# Altium integrated library TI Power Management DC-DC Controller (External Switch).IntLib: 349 symbols (part 11 of 28)
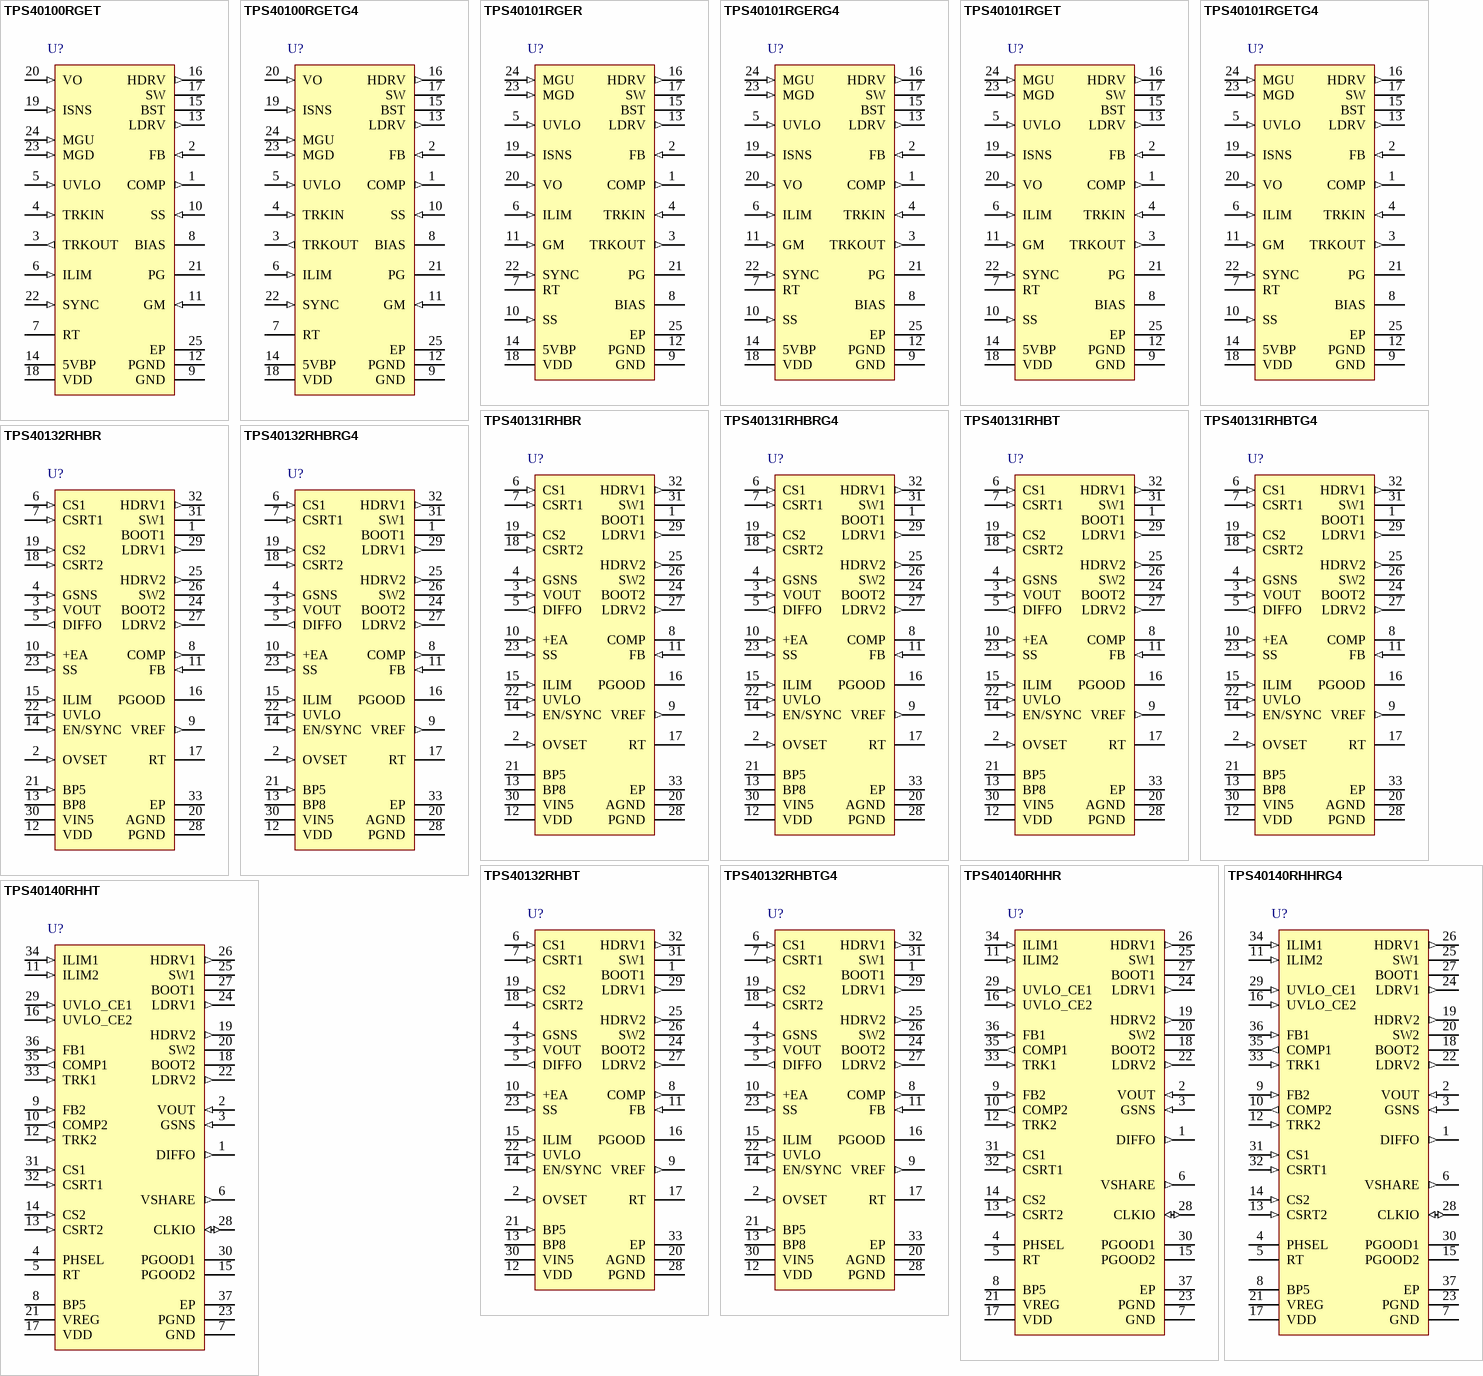
[diagram p24: symbols TPS40100RGET to TPS40140RHHT]

## TPS40131RHBTG4
designator U?
Two-Phase Synchronous Buck Controller with Integrated Mosfet Driver, 87.5 % Duty Cycle, 1 to 40 V, -40 to 85 degC, 32-pin QFN (RHB), Green (RoHS & no Sb/Br); Manufacturer: Texas Instruments; PartNumber: TPS40131RHBTG4; Duty Cycle(Max)(%): 87.5; Iout(Max)(A): 50; Regulated Outputs(#): 1; SubFamily: Step-Down Controller; Switching Frequency(Max)(kHz): 1000; Synchronous Rectification: TRUE; Topology: Buck, Multiphase"; Vin(Max)(V): 40; Vout(Max)(V): 5.8; Vout(Min)(V): 0.7; DatasheetVersion: SLVS635; PackageVersion: revD, Jun-2011; PackageReference: RHB32-3450X3450TP; PackageDescription: 32-Pin Plastic Quad Flat No-Lead, 5 x 5 mm Body, 0.5 mm Pitch, 3.45 x 3.45 mm Exposed Pad; Supplier 1: Digi-Key; Supplier Part Number 1: TPS40131RHBTG4-ND; Supplier 2: Farnell; Supplier Part Number 2: 1494891; Supplier 3: Newark; Supplier Part Number 3: 62M0697; Supplier 4: Newark; Supplier Part Number 4: 41M5867; Supplier 5: Mouser; Supplier Part Number 5: 595-TPS40131RHBTG4; Eco-Plan: Green (RoHS & no Sb/Br); Vin(Min)(V): 1; Mounting Technology: Surface Mount; Code_JEDEC: MO-220; ComponentLink1Description: Datasheet; ComponentLink1URL: http://www.ti.com/general/docs/lit/getliterature.tsp?genericPartNumber=TPS40131&fileType=pdf; ComponentLink2Description: Package Specification; ComponentLink2URL: http://www.ti.com/litv/pdf/mpqf130c
footprint RHB32-3450X3450TP (QFN, 32-Leads, Body 5x5mm, Pitch 0.5mm, Thermal Pad 3.45x3.45mm, TI Recommended)
pins: 1 BOOT1 (power) "Provides a bootstrapped supply for the high-side FET driver for PWM1, enabling the gate of the high-side FET to be driven above the input supply rail. Connect a capacitor from this pin to SW1 pin and a Schottky diode from (See Datasheet)", 2 OVSET (in) "A resistor divider, on this pin connected to the output voltage sets the overvoltage sense point.", 3 VOUT (in) "Non-inverting input of the differential amplifier. This pin should be connected to VOUT at the point of load.", 4 GSNS (in) "Inverting input of the differential amplifier. This pin should be connected to ground at the point of load.", 5 DIFFO (out) "Output of the differential amplifier. The voltage at this pin represents the true output voltage without IR drops that result from high-current in the PCB traces. The VOUT and GSNS pins must be connected directly at the (See Datasheet)", 6 CS1 (in) "These pins are used to sense the inductor phase current. Inductor current can be sensed with an external current sense resistor or by using an external R-C circuit and the inductor's DC resistance. The traces for these (See Datasheet)", 7 CSRT1 (in) "Return point of current sense voltage. The traces for these signals must be connected directly at the current sense element. See Layout Guidelines for more information.", 8 COMP "Output of the error amplifier. The voltage at this pin determines the duty cycle for the PWM.", 9 VREF (out) "Output of an internal reference voltage. The load may be up to 100-uA DC.", 10 +EA (in) "This is the input to the non-inverting input of the Error Amplifier. This pin is normally connected to the VREF pin and is the voltage that the feedback loop regulates to.", 11 FB (in) "Inverting input of the error amplifier. In closed loop operation, the voltage at this pin is the internal reference level of 700 mV. This pin is also used for the PGOOD and undervoltage comparators.", 12 VDD (power) "Power input for the LDO linear regulator that powers the differential amplifer and the current sense amplifiers.", 13 BP8 (power) "Output of the LDO that powers the differential amplifer and the current sense amplifiers. The voltage is approximately (VVDD -0.2 V) until the output regulates at approximately 7.5 V. Decouple this pin with a minimum (See Datasheet)", 14 EN/SYNC (in) "A logic high signal on this input enables the controller operation. A pulsing signal to this pin synchronizes the rising edge of SW to the falling edge of an external clock source.", 15 ILIM (in) "Used to set the cycle-by-cycle current limit threshold. If ILIM threshold is reached, the PWM cycle is terminated and the converter delivers limited current to the output.See the Overcurrent Protection section for more (See Datasheet)", 16 PGOOD (oc) "Power good indicator of the output voltage. This open-drain output connects to a voltage via an external resistor. When the FB pin voltage is between 0.616 V to 0.784 V (88% to 112% of VREF), the PGOOD output is in a high (See Datasheet)", 17 RT "Connecting a resistor from this pin to ground sets the oscillator frequency.", 18 CSRT2 (in) "Return point of current sense voltage. The traces for these signals must be connected directly at the current sense element. See Layout Guidelines for more information.", 19 CS2 (in) "These pins are used to sense the inductor phase current. Inductor current can be sensed with an external current sense resistor or by using an external R-C circuit and the inductor's DC resistance. The traces for these (See Datasheet)", 20 AGND (power) "Low noise ground connection to the device.", 21 BP5 (power) "Filtered input from the VIN5 pin. A 10-ohm resistor should be connected between VIN5 and BP5 and a 1.0-uF ceramic capacitor should be connected from this pin to ground.", 22 UVLO (in) "A voltage divider from VIN to this pin, set to 1V, determines the input voltage that starts the controller.", 23 SS (in) "Provides user programmable soft-start by means of a capacitor connected to the pin. If an undervoltage or over current fault is detected the soft-start capacitor cycles 7 times with no switching before a normal soft-start (See Datasheet)", 24 BOOT2 (power) "Provides a bootstrapped supply for the high-side FET driver for PWM2, enabling the gate of the high-side FET to be driven above the input supply rail. Connect a capacitor from this pin to SW2 pin and a Schottky diode from (See Datasheet)", 25 HDRV2 (out) "Gate drive output for the high-side N-channel MOSFET switch for PWM2. Output is referenced to SW2 and is bootstrapped for enhancement of the high-side switch.", 26 SW2 (power) "Connect to the switched node on converter 2. Power return for the channel 2 upper gate driver. There should be a high-current return path from the source of the upper MOSFET to this pin. It is also used by the adaptive gate (See Datasheet)", 27 LDRV2 (out) "Gate drive output for the low-side synchronous rectifier (SR) N-channel MOSFET for PWM2. See Layout Considerations section.", 28 PGND (power) "Power ground reference for the controller lower gate drivers. There should be a high-current return path from the sources of the lower MOSFETs to this pin.", 29 LDRV1 (out) "Gate drive output for the low-side synchronous rectifier (SR) N-channel MOSFET for PWM1. See Layout Considerations section.", 30 VIN5 (power) "Power input for the device. A 1.0-uF ceramic capacitor should be connected from this pin to ground.", 31 SW1 (power) "Connect to the switched node on converter 1. Power return for the channel 1 upper gate driver. There should be a high-current return path from the source of the upper MOSFET to this pin. It is also used by the adaptive gate (See Datasheet)", 32 HDRV1 (out) "Gate drive output for the high-side N-channel MOSFET switch for PWM1. Output is referenced to SW1 and is bootstrapped for enhancement of the high-side switch.", 33 EP (power) "Exposed thermal pad."

## TPS40132RHBR
designator U?
Two Channel Multiphase Controller with 600 mV, .8 % Reference, 87.5 % Duty Cycle, 1 to 40 V, -40 to 85 degC, 32-pin QFN (RHB), Green (RoHS & no Sb/Br); Manufacturer: Texas Instruments; PartNumber: TPS40132RHBR; Duty Cycle(Max)(%): 87.5; Iout(Max)(A): 40; Regulated Outputs(#): 1; SubFamily: Step-Down Controller; Switching Frequency(Max)(kHz): 1000; Synchronous Rectification: TRUE; Vout(Max)(V): 5.8; Vout(Min)(V): 0.6; DatasheetVersion: SLUS776B; PackageVersion: revD, Jun-2011; PackageReference: RHB32-3450X3450TP; PackageDescription: 32-Pin Plastic Quad Flat No-Lead, 5 x 5 mm Body, 0.5 mm Pitch, 3.45 x 3.45 mm Exposed Pad; Supplier 1: Digi-Key; Supplier Part Number 1: TPS40132RHBR-ND; Supplier 2: Mouser; Supplier Part Number 2: 595-TPS40132RHBR; Eco-Plan: Green (RoHS & no Sb/Br); Topology: Multiphase; Vin(Max)(V): 40; Vin(Min)(V): 1; Mounting Technology: Surface Mount; Code_JEDEC: MO-220; ComponentLink1Description: Datasheet; ComponentLink1URL: http://www.ti.com/general/docs/lit/getliterature.tsp?genericPartNumber=TPS40132&fileType=pdf; ComponentLink2Description: Package Specification; ComponentLink2URL: http://www.ti.com/litv/pdf/mpqf130c
footprint RHB32-3450X3450TP (QFN, 32-Leads, Body 5x5mm, Pitch 0.5mm, Thermal Pad 3.45x3.45mm, TI Recommended)
pins: 1 BOOT1 (power) "Provides a bootstrapped supply for the high-side FET driver for PWM1, enabling the gate of the high-side FET to be driven above the input supply rail. Connect a capacitor from this pin to SW1 pin and a Schottky diode from (See Datasheet)", 2 OVSET (in) "A resistor divider, on this pin connected to the output voltage sets the overvoltage sense point.", 3 VOUT (in) "Non-inverting input of the differential amplifier. This pin should be connected to VOUT at the point of load.", 4 GSNS (in) "Inverting input of the differential amplifier. This pin should be connected to ground at the point of load.", 5 DIFFO (out) "Output of the differential amplifier. The voltage at this pin represents the true output voltage without IR drops that result from high-current in the PCB traces. The VOUT and GSNS pins must be connected directly at the (See Datasheet)", 6 CS1 (in) "These pins are used to sense the inductor phase current. Inductor current can be sensed with an external current sense resistor or by using an external R-C circuit and the inductor's DC resistance. The traces for these (See Datasheet)", 7 CSRT1 (in) "Return point of current sense voltage. The traces for these signals must be connected directly at the current sense element. See Layout Guidelines for more information.", 8 COMP (out) "Output of the error amplifier. The voltage at this pin determines the duty cycle for the PWM.", 9 VREF (out) "Output of an internal reference voltage. The load may be up to 100-uA DC.", 10 +EA (in) "This is the input to the non-inverting input of the Error Amplifier. This pin is normally connected to the VREF pin and is the voltage that the feedback loop regulates to.", 11 FB (in) "Inverting input of the error amplifier. In closed loop operation, the voltage at this pin is the internal reference level of 600 mV. This pin is also used for the PGOOD and undervoltage comparators.", 12 VDD (power) "Power input for the LDO linear regulator that powers the differential amplifier and the current sense amplifiers.", 13 BP8 (power) "Output of the LDO that powers the differential amplifier and the current sense amplifiers. The voltage is approximately (VVDD -0.2 V) until the output regulates at approximately 7.5 V. Decouple this pin with a minimum (See Datasheet)", 14 EN/SYNC (in) "A logic high signal on this input enables the controller operation. A pulsing signal to this pin synchronizes the rising edge of SW to the falling edge of an external clock source.", 15 ILIM (in) "Used to set the cycle-by-cycle current limit threshold. If ILIM threshold is reached, the PWM cycle is terminated and the converter delivers limited current to the output. The relationship between ILIM and the maximum phase (See Datasheet)", 16 PGOOD (hiz) "Power good indicator of the output voltage. This open-drain output connects to a voltage via an external resistor. When the FB pin voltage is between 93% and 107% of VREF, the PGOOD output is in a high impedance state.", 17 RT "Connecting a resistor from this pin to ground sets the oscillator frequency.", 18 CSRT2 (in) "Return point of current sense voltage. The traces for these signals must be connected directly at the current sense element. See Layout Guidelines for more information.", 19 CS2 (in) "These pins are used to sense the inductor phase current. Inductor current can be sensed with an external current sense resistor or by using an external R-C circuit and the inductor's DC resistance. The traces for these (See Datasheet)", 20 AGND (power) "Low noise ground connection to the device.", 21 BP5 (in) "Filtered input from the VIN5 pin. A 10-ohm resistor should be connected between VIN5 and BP5 and a 1.0-uF ceramic capacitor should be connected from this pin to ground.", 22 UVLO (in) "A voltage divider from VIN to this pin, set to 1V, determines the input voltage that starts the controller.", 23 SS (in) "Provides user programmable soft-start by means of a capacitor connected to the pin. If an undervoltage or over current fault is detected the soft-start capacitor cycles 7 times with no switching before a normal soft-start (See Datasheet)", 24 BOOT2 (power) "Provides a bootstrapped supply for the high-side FET driver for PWM2, enabling the gate of the high-side FET to be driven above the input supply rail. Connect a capacitor from this pin to SW2 pin and a Schottky diode from (See Datasheet)", 25 HDRV2 (out) "Gate drive output for the high-side N-channel MOSFET switch for PWM2. Output is referenced to SW2 and is bootstrapped for enhancement of the high-side switch.", 26 SW2 (power) "Connect to the switched node on converter 2. Power return for the channel 2 upper gate driver. There should be a high-current return path from the source of the upper MOSFET to this pin. It is also used by the adaptive gate (See Datasheet)", 27 LDRV2 (out) "Gate drive output for the low-side synchronous rectifier (SR) N-channel MOSFET for PWM2. See Layout Considerations section.", 28 PGND (power) "Power ground reference for the controller lower gate drivers. There should be a high-current return path from the sources of the lower MOSFETs to this pin.", 29 LDRV1 (out) "Gate drive output for the low-side synchronous rectifier (SR) N-channel MOSFET for PWM1. See Layout Considerations section.", 30 VIN5 (power) "Power input for the device. A 1.0-uF ceramic capacitor should be connected from this pin to ground.", 31 SW1 (power) "Connect to the switched node on converter 1. Power return for the channel 1 upper gate driver. There should be a high-current return path from the source of the upper MOSFET to this pin. It is also used by the adaptive gate (See Datasheet)", 32 HDRV1 (out) "Gate drive output for the high-side N-channel MOSFET switch for PWM1. Output is referenced to SW1 and is bootstrapped for enhancement of the high-side switch.", 33 EP (power) "Exposed pad."

## TPS40132RHBRG4
designator U?
Two Channel Multiphase Controller with 600 mV, 8 % Reference, 87.5 % Duty Cycle, 1 to 40 V, -40 to 85 degC, 32-pin QFN (RHB), Green (RoHS & no Sb/Br); Manufacturer: Texas Instruments; PartNumber: TPS40132RHBRG4; Duty Cycle(Max)(%): 87.5; Iout(Max)(A): 40; Regulated Outputs(#): 1; SubFamily: Step-Down Controller; Switching Frequency(Max)(kHz): 1000; Synchronous Rectification: TRUE; Vout(Max)(V): 5.8; Vout(Min)(V): 0.6; DatasheetVersion: SLUS776B; PackageVersion: revD, Jun-2011; PackageReference: RHB32-3450X3450TP; PackageDescription: 32-Pin Plastic Quad Flat No-Lead, 5 x 5 mm Body, 0.5 mm Pitch, 3.45 x 3.45 mm Exposed Pad; Supplier 1: Digi-Key; Supplier Part Number 1: TPS40132RHBRG4-ND; Supplier 2: Mouser; Supplier Part Number 2: 595-TPS40132RHBRG4; Eco-Plan: Green (RoHS & no Sb/Br); Topology: Multiphase; Vin(Max)(V): 40; Vin(Min)(V): 1; Mounting Technology: Surface Mount; Code_JEDEC: MO-220; ComponentLink1Description: Datasheet; ComponentLink1URL: http://www.ti.com/general/docs/lit/getliterature.tsp?genericPartNumber=TPS40132&fileType=pdf; ComponentLink2Description: Package Specification; ComponentLink2URL: http://www.ti.com/litv/pdf/mpqf130c
footprint RHB32-3450X3450TP (QFN, 32-Leads, Body 5x5mm, Pitch 0.5mm, Thermal Pad 3.45x3.45mm, TI Recommended)
pins: 1 BOOT1 (power) "Provides a bootstrapped supply for the high-side FET driver for PWM1, enabling the gate of the high-side FET to be driven above the input supply rail. Connect a capacitor from this pin to SW1 pin and a Schottky diode from (See Datasheet)", 2 OVSET (in) "A resistor divider, on this pin connected to the output voltage sets the overvoltage sense point.", 3 VOUT (in) "Non-inverting input of the differential amplifier. This pin should be connected to VOUT at the point of load.", 4 GSNS (in) "Inverting input of the differential amplifier. This pin should be connected to ground at the point of load.", 5 DIFFO (out) "Output of the differential amplifier. The voltage at this pin represents the true output voltage without IR drops that result from high-current in the PCB traces. The VOUT and GSNS pins must be connected directly at the (See Datasheet)", 6 CS1 (in) "These pins are used to sense the inductor phase current. Inductor current can be sensed with an external current sense resistor or by using an external R-C circuit and the inductor's DC resistance. The traces for these (See Datasheet)", 7 CSRT1 (in) "Return point of current sense voltage. The traces for these signals must be connected directly at the current sense element. See Layout Guidelines for more information.", 8 COMP (out) "Output of the error amplifier. The voltage at this pin determines the duty cycle for the PWM.", 9 VREF (out) "Output of an internal reference voltage. The load may be up to 100-uA DC.", 10 +EA (in) "This is the input to the non-inverting input of the Error Amplifier. This pin is normally connected to the VREF pin and is the voltage that the feedback loop regulates to.", 11 FB (in) "Inverting input of the error amplifier. In closed loop operation, the voltage at this pin is the internal reference level of 600 mV. This pin is also used for the PGOOD and undervoltage comparators.", 12 VDD (power) "Power input for the LDO linear regulator that powers the differential amplifier and the current sense amplifiers.", 13 BP8 (power) "Output of the LDO that powers the differential amplifier and the current sense amplifiers. The voltage is approximately (VVDD -0.2 V) until the output regulates at approximately 7.5 V. Decouple this pin with a minimum (See Datasheet)", 14 EN/SYNC (in) "A logic high signal on this input enables the controller operation. A pulsing signal to this pin synchronizes the rising edge of SW to the falling edge of an external clock source.", 15 ILIM (in) "Used to set the cycle-by-cycle current limit threshold. If ILIM threshold is reached, the PWM cycle is terminated and the converter delivers limited current to the output. The relationship between ILIM and the maximum phase (See Datasheet)", 16 PGOOD (hiz) "Power good indicator of the output voltage. This open-drain output connects to a voltage via an external resistor. When the FB pin voltage is between 93% and 107% of VREF, the PGOOD output is in a high impedance state.", 17 RT "Connecting a resistor from this pin to ground sets the oscillator frequency.", 18 CSRT2 (in) "Return point of current sense voltage. The traces for these signals must be connected directly at the current sense element. See Layout Guidelines for more information.", 19 CS2 (in) "These pins are used to sense the inductor phase current. Inductor current can be sensed with an external current sense resistor or by using an external R-C circuit and the inductor's DC resistance. The traces for these (See Datasheet)", 20 AGND (power) "Low noise ground connection to the device.", 21 BP5 (in) "Filtered input from the VIN5 pin. A 10-ohm resistor should be connected between VIN5 and BP5 and a 1.0-uF ceramic capacitor should be connected from this pin to ground.", 22 UVLO (in) "A voltage divider from VIN to this pin, set to 1V, determines the input voltage that starts the controller.", 23 SS (in) "Provides user programmable soft-start by means of a capacitor connected to the pin. If an undervoltage or over current fault is detected the soft-start capacitor cycles 7 times with no switching before a normal soft-start (See Datasheet)", 24 BOOT2 (power) "Provides a bootstrapped supply for the high-side FET driver for PWM2, enabling the gate of the high-side FET to be driven above the input supply rail. Connect a capacitor from this pin to SW2 pin and a Schottky diode from (See Datasheet)", 25 HDRV2 (out) "Gate drive output for the high-side N-channel MOSFET switch for PWM2. Output is referenced to SW2 and is bootstrapped for enhancement of the high-side switch.", 26 SW2 (power) "Connect to the switched node on converter 2. Power return for the channel 2 upper gate driver. There should be a high-current return path from the source of the upper MOSFET to this pin. It is also used by the adaptive gate (See Datasheet)", 27 LDRV2 (out) "Gate drive output for the low-side synchronous rectifier (SR) N-channel MOSFET for PWM2. See Layout Considerations section.", 28 PGND (power) "Power ground reference for the controller lower gate drivers. There should be a high-current return path from the sources of the lower MOSFETs to this pin.", 29 LDRV1 (out) "Gate drive output for the low-side synchronous rectifier (SR) N-channel MOSFET for PWM1. See Layout Considerations section.", 30 VIN5 (power) "Power input for the device. A 1.0-uF ceramic capacitor should be connected from this pin to ground.", 31 SW1 (power) "Connect to the switched node on converter 1. Power return for the channel 1 upper gate driver. There should be a high-current return path from the source of the upper MOSFET to this pin. It is also used by the adaptive gate (See Datasheet)", 32 HDRV1 (out) "Gate drive output for the high-side N-channel MOSFET switch for PWM1. Output is referenced to SW1 and is bootstrapped for enhancement of the high-side switch.", 33 EP (power) "Exposed pad."

## TPS40132RHBT
designator U?
Two Channel Multiphase Controller with 600 mV, .8 % Reference, 87.5 % Duty Cycle, 1 to 40 V, -40 to 85 degC, 32-pin QFN (RHB), Green (RoHS & no Sb/Br); Manufacturer: Texas Instruments; PartNumber: TPS40132RHBT; Duty Cycle(Max)(%): 87.5; Iout(Max)(A): 40; Regulated Outputs(#): 1; SubFamily: Step-Down Controller; Switching Frequency(Max)(kHz): 1000; Synchronous Rectification: TRUE; Vout(Max)(V): 5.8; Vout(Min)(V): 0.6; DatasheetVersion: SLUS776B; PackageVersion: revD, Jun-2011; PackageReference: RHB32-3450X3450TP; PackageDescription: 32-Pin Plastic Quad Flat No-Lead, 5 x 5 mm Body, 0.5 mm Pitch, 3.45 x 3.45 mm Exposed Pad; Supplier 1: Digi-Key; Supplier Part Number 1: 296-23328-2-ND; Supplier 2: Digi-Key; Supplier Part Number 2: 296-23328-1-ND; Supplier 3: Digi-Key; Supplier Part Number 3: 296-23328-6-ND; Supplier 4: Farnell; Supplier Part Number 4: 1647909; Supplier 5: Newark; Supplier Part Number 5: 33P8371; Supplier 6: Newark; Supplier Part Number 6: 95M0045; Supplier 7: Mouser; Supplier Part Number 7: 595-TPS40132RHBT; Eco-Plan: Green (RoHS & no Sb/Br); Topology: Multiphase; Vin(Max)(V): 40; Vin(Min)(V): 1; Mounting Technology: Surface Mount; Code_JEDEC: MO-220; ComponentLink1Description: Datasheet; ComponentLink1URL: http://www.ti.com/general/docs/lit/getliterature.tsp?genericPartNumber=TPS40132&fileType=pdf; ComponentLink2Description: Package Specification; ComponentLink2URL: http://www.ti.com/litv/pdf/mpqf130c
footprint RHB32-3450X3450TP (QFN, 32-Leads, Body 5x5mm, Pitch 0.5mm, Thermal Pad 3.45x3.45mm, TI Recommended)
pins: 1 BOOT1 (power) "Provides a bootstrapped supply for the high-side FET driver for PWM1, enabling the gate of the high-side FET to be driven above the input supply rail. Connect a capacitor from this pin to SW1 pin and a Schottky diode from (See Datasheet)", 2 OVSET (in) "A resistor divider, on this pin connected to the output voltage sets the overvoltage sense point.", 3 VOUT (in) "Non-inverting input of the differential amplifier. This pin should be connected to VOUT at the point of load.", 4 GSNS (in) "Inverting input of the differential amplifier. This pin should be connected to ground at the point of load.", 5 DIFFO (out) "Output of the differential amplifier. The voltage at this pin represents the true output voltage without IR drops that result from high-current in the PCB traces. The VOUT and GSNS pins must be connected directly at the (See Datasheet)", 6 CS1 (in) "These pins are used to sense the inductor phase current. Inductor current can be sensed with an external current sense resistor or by using an external R-C circuit and the inductor's DC resistance. The traces for these (See Datasheet)", 7 CSRT1 (in) "Return point of current sense voltage. The traces for these signals must be connected directly at the current sense element. See Layout Guidelines for more information.", 8 COMP (out) "Output of the error amplifier. The voltage at this pin determines the duty cycle for the PWM.", 9 VREF (out) "Output of an internal reference voltage. The load may be up to 100-uA DC.", 10 +EA (in) "This is the input to the non-inverting input of the Error Amplifier. This pin is normally connected to the VREF pin and is the voltage that the feedback loop regulates to.", 11 FB (in) "Inverting input of the error amplifier. In closed loop operation, the voltage at this pin is the internal reference level of 600 mV. This pin is also used for the PGOOD and undervoltage comparators.", 12 VDD (power) "Power input for the LDO linear regulator that powers the differential amplifier and the current sense amplifiers.", 13 BP8 (power) "Output of the LDO that powers the differential amplifier and the current sense amplifiers. The voltage is approximately (VVDD -0.2 V) until the output regulates at approximately 7.5 V. Decouple this pin with a minimum (See Datasheet)", 14 EN/SYNC (in) "A logic high signal on this input enables the controller operation. A pulsing signal to this pin synchronizes the rising edge of SW to the falling edge of an external clock source.", 15 ILIM (in) "Used to set the cycle-by-cycle current limit threshold. If ILIM threshold is reached, the PWM cycle is terminated and the converter delivers limited current to the output. The relationship between ILIM and the maximum phase (See Datasheet)", 16 PGOOD (hiz) "Power good indicator of the output voltage. This open-drain output connects to a voltage via an external resistor. When the FB pin voltage is between 93% and 107% of VREF, the PGOOD output is in a high impedance state.", 17 RT "Connecting a resistor from this pin to ground sets the oscillator frequency.", 18 CSRT2 (in) "Return point of current sense voltage. The traces for these signals must be connected directly at the current sense element. See Layout Guidelines for more information.", 19 CS2 (in) "These pins are used to sense the inductor phase current. Inductor current can be sensed with an external current sense resistor or by using an external R-C circuit and the inductor's DC resistance. The traces for these (See Datasheet)", 20 AGND (power) "Low noise ground connection to the device.", 21 BP5 (in) "Filtered input from the VIN5 pin. A 10-ohm resistor should be connected between VIN5 and BP5 and a 1.0-uF ceramic capacitor should be connected from this pin to ground.", 22 UVLO (in) "A voltage divider from VIN to this pin, set to 1V, determines the input voltage that starts the controller.", 23 SS (in) "Provides user programmable soft-start by means of a capacitor connected to the pin. If an undervoltage or over current fault is detected the soft-start capacitor cycles 7 times with no switching before a normal soft-start (See Datasheet)", 24 BOOT2 (power) "Provides a bootstrapped supply for the high-side FET driver for PWM2, enabling the gate of the high-side FET to be driven above the input supply rail. Connect a capacitor from this pin to SW2 pin and a Schottky diode from (See Datasheet)", 25 HDRV2 (out) "Gate drive output for the high-side N-channel MOSFET switch for PWM2. Output is referenced to SW2 and is bootstrapped for enhancement of the high-side switch.", 26 SW2 (power) "Connect to the switched node on converter 2. Power return for the channel 2 upper gate driver. There should be a high-current return path from the source of the upper MOSFET to this pin. It is also used by the adaptive gate (See Datasheet)", 27 LDRV2 (out) "Gate drive output for the low-side synchronous rectifier (SR) N-channel MOSFET for PWM2. See Layout Considerations section.", 28 PGND (power) "Power ground reference for the controller lower gate drivers. There should be a high-current return path from the sources of the lower MOSFETs to this pin.", 29 LDRV1 (out) "Gate drive output for the low-side synchronous rectifier (SR) N-channel MOSFET for PWM1. See Layout Considerations section.", 30 VIN5 (power) "Power input for the device. A 1.0-uF ceramic capacitor should be connected from this pin to ground.", 31 SW1 (power) "Connect to the switched node on converter 1. Power return for the channel 1 upper gate driver. There should be a high-current return path from the source of the upper MOSFET to this pin. It is also used by the adaptive gate (See Datasheet)", 32 HDRV1 (out) "Gate drive output for the high-side N-channel MOSFET switch for PWM1. Output is referenced to SW1 and is bootstrapped for enhancement of the high-side switch.", 33 EP (power) "Exposed pad."

## TPS40132RHBTG4
designator U?
Two Channel Multiphase Controller with 600 mV, .8 % Reference, 87.5 % Duty Cycle, 1 to 40 V, -40 to 85 degC, 32-pin QFN (RHB), Green (RoHS & no Sb/Br); Manufacturer: Texas Instruments; PartNumber: TPS40132RHBTG4; Duty Cycle(Max)(%): 87.5; Iout(Max)(A): 40; Regulated Outputs(#): 1; SubFamily: Step-Down Controller; Switching Frequency(Max)(kHz): 1000; Synchronous Rectification: TRUE; Vout(Max)(V): 5.8; Vout(Min)(V): 0.6; DatasheetVersion: SLUS776B; PackageVersion: revD, Jun-2011; PackageReference: RHB32-3450X3450TP; PackageDescription: 32-Pin Plastic Quad Flat No-Lead, 5 x 5 mm Body, 0.5 mm Pitch, 3.45 x 3.45 mm Exposed Pad; Supplier 1: Digi-Key; Supplier Part Number 1: TPS40132RHBTG4-ND; Supplier 2: Mouser; Supplier Part Number 2: 595-TPS40132RHBTG4; Eco-Plan: Green (RoHS & no Sb/Br); Topology: Multiphase; Vin(Max)(V): 40; Vin(Min)(V): 1; Mounting Technology: Surface Mount; Code_JEDEC: MO-220; ComponentLink1Description: Datasheet; ComponentLink1URL: http://www.ti.com/general/docs/lit/getliterature.tsp?genericPartNumber=TPS40132&fileType=pdf; ComponentLink2Description: Package Specification; ComponentLink2URL: http://www.ti.com/litv/pdf/mpqf130c
footprint RHB32-3450X3450TP (QFN, 32-Leads, Body 5x5mm, Pitch 0.5mm, Thermal Pad 3.45x3.45mm, TI Recommended)
pins: 1 BOOT1 (power) "Provides a bootstrapped supply for the high-side FET driver for PWM1, enabling the gate of the high-side FET to be driven above the input supply rail. Connect a capacitor from this pin to SW1 pin and a Schottky diode from (See Datasheet)", 2 OVSET (in) "A resistor divider, on this pin connected to the output voltage sets the overvoltage sense point.", 3 VOUT (in) "Non-inverting input of the differential amplifier. This pin should be connected to VOUT at the point of load.", 4 GSNS (in) "Inverting input of the differential amplifier. This pin should be connected to ground at the point of load.", 5 DIFFO (out) "Output of the differential amplifier. The voltage at this pin represents the true output voltage without IR drops that result from high-current in the PCB traces. The VOUT and GSNS pins must be connected directly at the (See Datasheet)", 6 CS1 (in) "These pins are used to sense the inductor phase current. Inductor current can be sensed with an external current sense resistor or by using an external R-C circuit and the inductor's DC resistance. The traces for these (See Datasheet)", 7 CSRT1 (in) "Return point of current sense voltage. The traces for these signals must be connected directly at the current sense element. See Layout Guidelines for more information.", 8 COMP (out) "Output of the error amplifier. The voltage at this pin determines the duty cycle for the PWM.", 9 VREF (out) "Output of an internal reference voltage. The load may be up to 100-uA DC.", 10 +EA (in) "This is the input to the non-inverting input of the Error Amplifier. This pin is normally connected to the VREF pin and is the voltage that the feedback loop regulates to.", 11 FB (in) "Inverting input of the error amplifier. In closed loop operation, the voltage at this pin is the internal reference level of 600 mV. This pin is also used for the PGOOD and undervoltage comparators.", 12 VDD (power) "Power input for the LDO linear regulator that powers the differential amplifier and the current sense amplifiers.", 13 BP8 (power) "Output of the LDO that powers the differential amplifier and the current sense amplifiers. The voltage is approximately (VVDD -0.2 V) until the output regulates at approximately 7.5 V. Decouple this pin with a minimum (See Datasheet)", 14 EN/SYNC (in) "A logic high signal on this input enables the controller operation. A pulsing signal to this pin synchronizes the rising edge of SW to the falling edge of an external clock source.", 15 ILIM (in) "Used to set the cycle-by-cycle current limit threshold. If ILIM threshold is reached, the PWM cycle is terminated and the converter delivers limited current to the output. The relationship between ILIM and the maximum phase (See Datasheet)", 16 PGOOD (hiz) "Power good indicator of the output voltage. This open-drain output connects to a voltage via an external resistor. When the FB pin voltage is between 93% and 107% of VREF, the PGOOD output is in a high impedance state.", 17 RT "Connecting a resistor from this pin to ground sets the oscillator frequency.", 18 CSRT2 (in) "Return point of current sense voltage. The traces for these signals must be connected directly at the current sense element. See Layout Guidelines for more information.", 19 CS2 (in) "These pins are used to sense the inductor phase current. Inductor current can be sensed with an external current sense resistor or by using an external R-C circuit and the inductor's DC resistance. The traces for these (See Datasheet)", 20 AGND (power) "Low noise ground connection to the device.", 21 BP5 (in) "Filtered input from the VIN5 pin. A 10-ohm resistor should be connected between VIN5 and BP5 and a 1.0-uF ceramic capacitor should be connected from this pin to ground.", 22 UVLO (in) "A voltage divider from VIN to this pin, set to 1V, determines the input voltage that starts the controller.", 23 SS (in) "Provides user programmable soft-start by means of a capacitor connected to the pin. If an undervoltage or over current fault is detected the soft-start capacitor cycles 7 times with no switching before a normal soft-start (See Datasheet)", 24 BOOT2 (power) "Provides a bootstrapped supply for the high-side FET driver for PWM2, enabling the gate of the high-side FET to be driven above the input supply rail. Connect a capacitor from this pin to SW2 pin and a Schottky diode from (See Datasheet)", 25 HDRV2 (out) "Gate drive output for the high-side N-channel MOSFET switch for PWM2. Output is referenced to SW2 and is bootstrapped for enhancement of the high-side switch.", 26 SW2 (power) "Connect to the switched node on converter 2. Power return for the channel 2 upper gate driver. There should be a high-current return path from the source of the upper MOSFET to this pin. It is also used by the adaptive gate (See Datasheet)", 27 LDRV2 (out) "Gate drive output for the low-side synchronous rectifier (SR) N-channel MOSFET for PWM2. See Layout Considerations section.", 28 PGND (power) "Power ground reference for the controller lower gate drivers. There should be a high-current return path from the sources of the lower MOSFETs to this pin.", 29 LDRV1 (out) "Gate drive output for the low-side synchronous rectifier (SR) N-channel MOSFET for PWM1. See Layout Considerations section.", 30 VIN5 (power) "Power input for the device. A 1.0-uF ceramic capacitor should be connected from this pin to ground.", 31 SW1 (power) "Connect to the switched node on converter 1. Power return for the channel 1 upper gate driver. There should be a high-current return path from the source of the upper MOSFET to this pin. It is also used by the adaptive gate (See Datasheet)", 32 HDRV1 (out) "Gate drive output for the high-side N-channel MOSFET switch for PWM1. Output is referenced to SW1 and is bootstrapped for enhancement of the high-side switch.", 33 EP (power) "Exposed pad."

## TPS40140RHHR
designator U?
Stackable 2 Channel Multiphase or 2 Channel Independent Output Controller, 87.5 % Duty Cycle, 2 to 40 V, -40 to 85 degC, 36-pin VQFN (RHH), Green (RoHS & no Sb/Br); Manufacturer: Texas Instruments; PartNumber: TPS40140RHHR; Duty Cycle(Max)(%): 87.5; Iout(Max)(A): 25; Regulated Outputs(#): 2; SubFamily: Multiple-Output Switching Controller; Switching Frequency(Max)(kHz): 1000; Synchronous Rectification: TRUE; Topology: Buck, Stackable Multiphase"; Vin(Max)(V): 40; Vout(Max)(V): 5.8; Vout(Min)(V): 0.7; DatasheetVersion: SLUS660G; PackageVersion: revE,  Jun-2011; PackageReference: RHH36-4100X4100TP; PackageDescription: 36-Pin Plastic Quad Flatpack No-Lead, 6 x 6 mm Body, 0.5 mm Pitch; Supplier 1: Digi-Key; Supplier Part Number 1: 296-20689-2-ND; Supplier 2: Digi-Key; Supplier Part Number 2: 296-20689-1-ND; Supplier 3: Digi-Key; Supplier Part Number 3: 296-20689-6-ND; Supplier 4: Newark; Supplier Part Number 4: 94T5093; Supplier 5: Newark; Supplier Part Number 5: 10M0623; Supplier 6: Mouser; Supplier Part Number 6: 595-TPS40140RHHR; Eco-Plan: Green (RoHS & no Sb/Br); Iout2(A): 25; Vin(Min)(V): 2; Vout2(Max)(V): 5.8; Vout2(Min)(V): 0.7; Mounting Technology: Surface Mount; Code_JEDEC: MO-220; ComponentLink1Description: Datasheet; ComponentLink1URL: http://www.ti.com/general/docs/lit/getliterature.tsp?genericPartNumber=TPS40140&fileType=pdf; ComponentLink2Description: Package Specification; ComponentLink2URL: http://www.ti.com/litv/pdf/mpqf144d
footprint RHH36-4100X4100TP (QFN, 36-Leads, Body 6x6mm, Pitch 0.5mm, Thermal Pad 4.15x4.15mm, TI Recommended)
pins: 1 DIFFO (out) "Output of the differential amplifier. The output voltage of the differential amplifier is limited to 5.8 V. For remote sensing, the voltage at this pin represents the true output voltage without I x R drops that result from (See Datasheet)", 2 VOUT (in) "Non-inverting input of the differential amplifier. This pin should be connected to the output of the converter close to the load point. If the differential amplifier is not used, leave this pin open.", 3 GSNS (in) "Inverting input of the differential amplifier. This pin should be connected to ground at the load. If the differential amplifier is not used, tie this pin to GND or leave open.", 4 PHSEL "A 20uA current flows from this pin. In a single controller design, this pin should be grounded. In a multi controller configuration, a 39- k ohm resistor string sets the voltage on this pin determines the proper phasing for (See Datasheet)", 5 RT "Connecting a resistor from this pin to ground sets the oscillator frequency.", 6 VSHARE (out) "The 1.8 V reference output.", 7 GND (power) "Low noise ground connection to the device.", 8 BP5 (power) "Filtered input from the VREG pin. A 10-ohm resistor should be connected between VREG and BP5 and a 1.0-uF ceramic capacitor should be connected from BP5 to ground.", 9 FB2 (in) "Inverting input of the error amplifier for CH2. In closed loop operation, the voltage at this pin is nominally 700 mV. This pin is also monitored for PGOOD2 and undervoltage on CH2.", 10 COMP2 (out) "Output of the error amplifier, CH2. The voltage at this pin determines the duty cycle for the PWM2.", 11 ILIM2 (in) "Used to set the cycle-by-cycle current limit threshold for CH2. If the ILIM2 threshold is reached, the PWM pulse is terminated and the converter delivers limited current to the output.", 12 TRK2 (in) "This is an input to the non-inverting input of the error amplifier CH2. This pin is normally connected to the soft-start capacitor or to another voltage that is tracked.", 13 CSRT2 (in) "Return point of CH1 current sense voltage. The trace for this signal must be connected directly at the current sense element.", 14 CS2 (in) "These pins are used to sense the CH2 phase current. Inductor current can be sensed with an external current sense resistor or by using an external R-C circuit and the inductor’s DC resistance. The traces for these signals (See Datasheet)", 15 PGOOD2 (oc) "Power good indicators for CH2 output voltage. This open-drain output connects to a voltage via an external resistor", 16 UVLO_CE2 (in) "A voltage divider from VIN to this pin determines the input voltage that CH2 starts. When the voltage is between 0.5 V and 1.5 V the VREG regulator is enabled . When the voltage is 2.1 V or above CH2 soft start is allowed to (See Datasheet)", 17 VDD (power) "Power input for the controller 5V regulator and differential amplifier. A 1.0-uF ceramic capacitor should be connected from this pin to ground.", 18 BOOT2 (power) "BOOT2 provides a bootstrapped supply for the high side FET driver for PWM2, enabling the gate of the high side FET to be driven above the input supply rail. Connect a capacitor from BOOT2 to SW2 pin and a Schottky diode from (See Datasheet)", 19 HDRV2 (out) "Gate drive output for the high side N-channel MOSFET switch for CH2. Output is referenced to SW2 and is bootstrapped for enhancement of the high side switch.", 20 SW2 (power) "Connect to the switched node on converter CH2. It is the return for the CH 2 upper gate driver. There should be a high current return path from the source of the upper MOSFET to this pin. This pin is also used by the (See Datasheet)", 21 VREG (power) "The output of the internal 5-V regulator. A 4.7-uF ceramic capacitor should be connected from this pin to PGND.", 22 LDRV2 (out) "Gate drive output for the low side synchronous rectifier (SR) N-channel MOSFET for CH2.", 23 PGND (power) "Power ground reference for the controller lower gate drivers. There should be a high current return path from the sources of the lower MOSFETs to this pin.", 24 LDRV1 (out) "Gate drive output for the low side synchronous rectifier (SR) N-channel MOSFET for CH1.", 25 SW1 (power) "Connect to the switched node on converter CH1. It is the return for the CH 1 upper gate driver. There should be a high current return path from the source of the upper MOSFET to this pin. This pin is also used by the (See Datasheet)", 26 HDRV1 (out) "Gate drive output for the high side N-channel MOSFET switch for CH1. Output is referenced to SW1 and is bootstrapped for enhancement of the high side switch.", 27 BOOT1 (power) "BOOT1 provides a bootstrapped supply for the high side FET driver for PWM1, enabling the gate of the high side FET to be driven above the input supply rail. Connect a capacitor from BOOT1 to SW1 pin and a Schottky diode from (See Datasheet)", 28 CLKIO (io) "Digital clock signal for synchronizing slave controllers to the master CLKIO frequency and is either 6 or 8 times the PWM switching frequency.", 29 UVLO_CE1 (in) "A voltage divider from VIN to this pin determines the input voltage that CH1 starts. When the voltage is between 0.5 V and 1.5 V the VREG regulator is enabled . When the voltage is 2.1 V or above CH1 soft start is allowed to (See Datasheet)", 30 PGOOD1 (oc) "Power good indicators for CH1 output voltage. This open-drain output connects to a voltage via an external resistor", 31 CS1 (in) "These pins are used to sense the CH1 phase current. Inductor current can be sensed with an external current sense resistor or by using an external R-C circuit and the inductor’s DC resistance. The traces for these signals (See Datasheet)", 32 CSRT1 (in) "Return point of CH1 current sense voltage. The trace for this signal must be connected directly at the current sense element.", 33 TRK1 (in) "This is an input to the non-inverting input of the error amplifier CH1. This pin is normally connected to the soft-start capacitor or to another voltage that is tracked.", 34 ILIM1 (in) "Used to set the cycle-by-cycle current limit threshold for CH1. If the ILIM1 threshold is reached, the PWM pulse is terminated and the converter delivers limited current to the output.", 35 COMP1 (out) "Output of the error amplifier, CH1. The voltage at this pin determines the duty cycle for the PWM1.", 36 FB1 (in) "Inverting input of the error amplifier for CH1. In closed loop operation, the voltage at this pin is nominally 700 mV. This pin is also monitored for PGOOD1 and undervoltage on CH1.", 37 EP (power) "Thermal pad."